# EAGLE library part ACS715 (library parts)
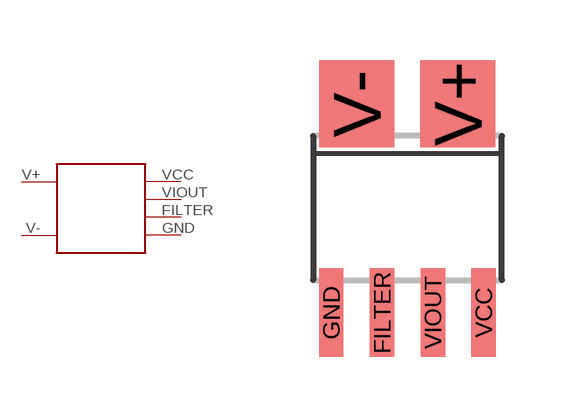
[diagram p1: symbol with the pads of ACS71X; footprint ACS71X]

Designator prefix -

## ACS715  [ACS71X]
FILTER  FILTER
GND  GND
V+  V+
V-  V-
VCC  VCC
VIOUT  VIOUT

## Footprint ACS71X (pad centres in mm)
smd 0.61 x 2.21: FILTER -0.635,-2.616; GND -1.905,-2.616; VCC 1.905,-2.616; VIOUT 0.635,-2.616
smd 1.88 x 2.184: V+ 1.257,2.605; V- -1.268,2.605